# Altium footprint library DC_Stepper.PcbLib: 15 footprints
Each footprint in its own frame and in the unit in brackets; x right, y up, seen from the top. Pads: shape width x height; smd on the part's side, far side on the other; paste and mask are expansions set on the pad; w line width, h text height; cw(c..) or ccw(c..) is an arc to the next point about the centre after c.
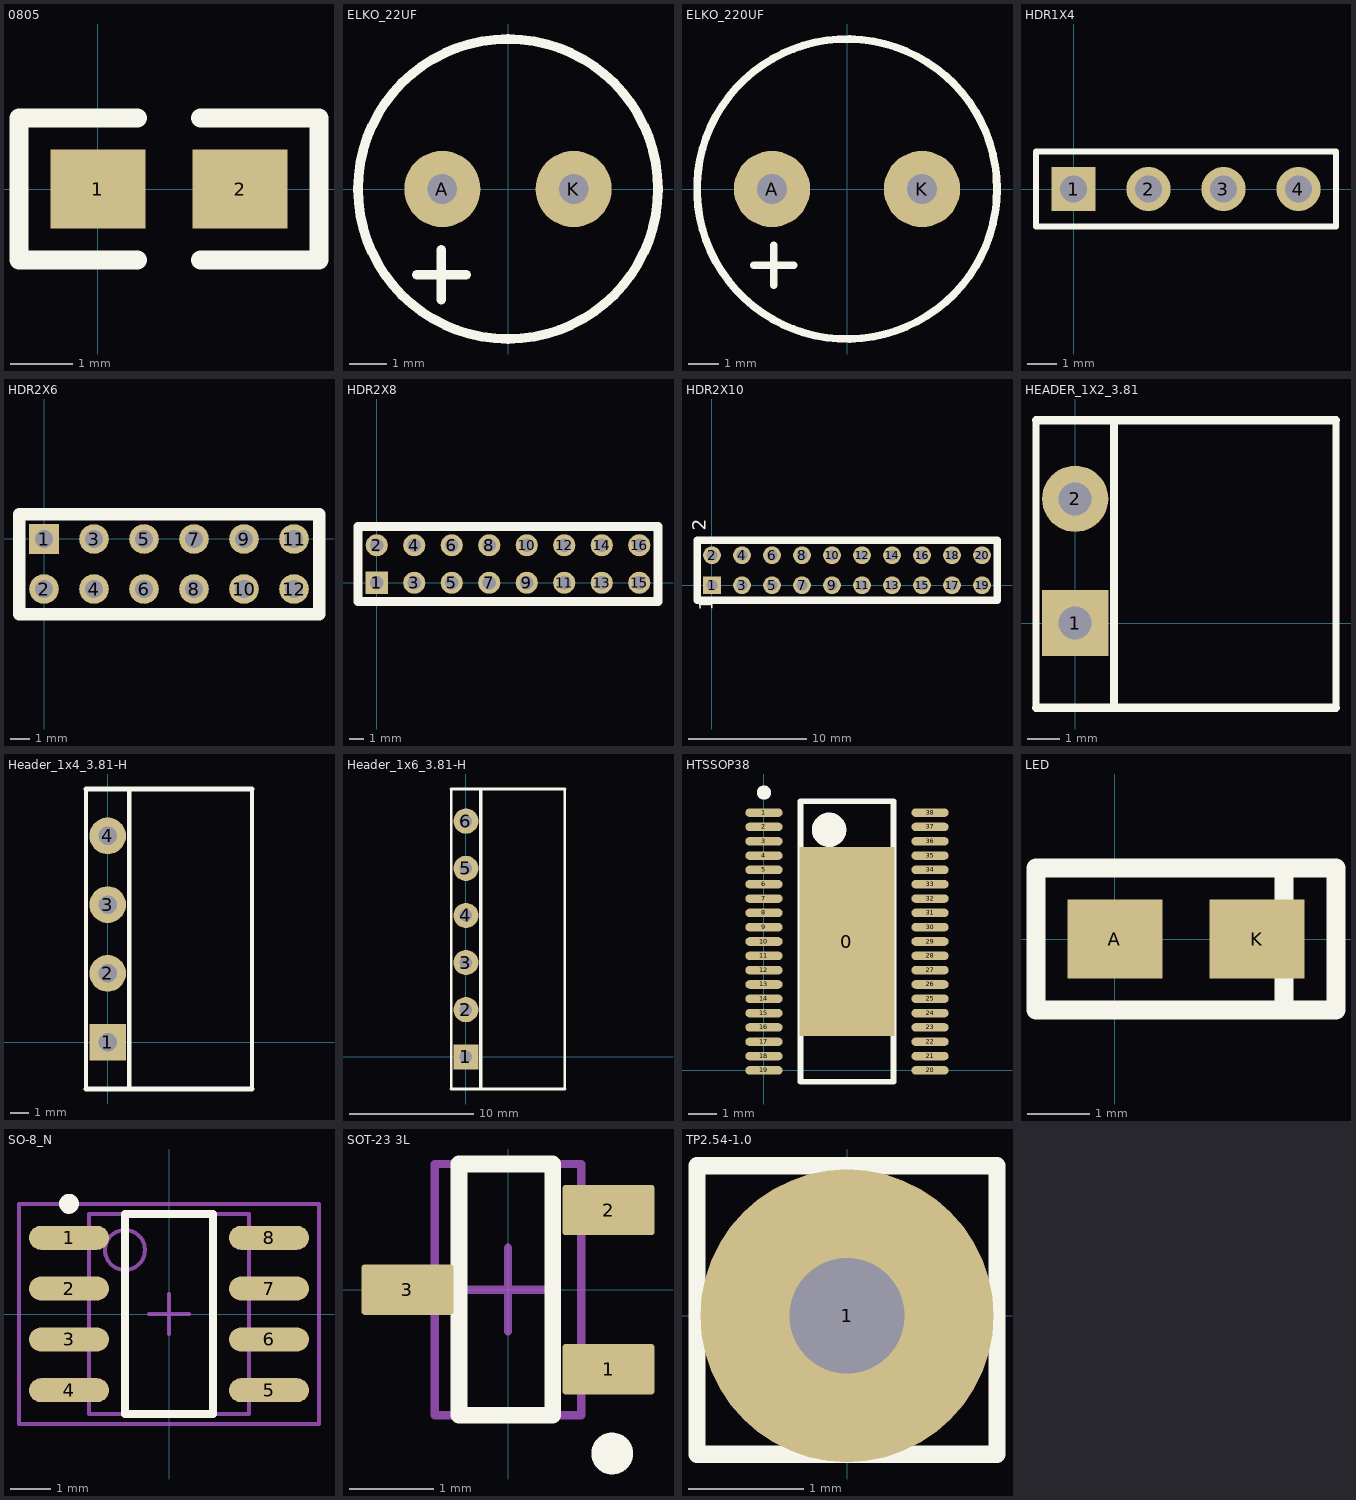
[diagram p0: the footprints below, top view; thin cyan lines are the x and y axes]

## 0805 [mil]
height 47.24
pads (2):
  rect 60x50 smd: 1(0,0) 2(90,0)
Top Overlay:
  lines w12: 25,-45 -50,-45 -50,45 25,45 ; 65,-45 140,-45 140,45 65,45

## ELKO_22UF [mil] "NKR220M1CE11VU"
pads (2):
  round 80 hole 31: A(-68.9,0) K(68.9,0)
Top Overlay:
  circle w10: c0,0 r157.48
  lines w10: -96,-90 -44,-90 ; -70,-116 -70,-64

## ELKO_220UF [mm]
pads (2):
  round 2.54 hole 1.016: A(-2.5,0) K(2.5,0)
Top Overlay:
  circle w0.254: c0,0 r5
  lines w0.254: -3.101,-2.54 -1.781,-2.54 ; -2.441,-3.2 -2.441,-1.88

## HDR1X4 [mm] "Connector; Header; 4 Position"
height 1.2
pads (4):
  rect 1.5x1.5 hole 0.9: 1(0,0)
  round 1.5 hole 0.9: 2(2.54,0) 3(5.08,0) 4(7.62,0)
Top Overlay:
  lines w0.2: -1.27,-1.27 8.89,-1.27 8.89,1.27 -1.27,1.27 -1.27,-1.27

## HDR2X6 [mm]
pads (12):
  rect 1.5x1.5 hole 0.9: 1(0,0)
  round 1.5 hole 0.9: 2(0,-2.54) 3(2.54,0) 4(2.54,-2.54) 5(5.08,0) 6(5.08,-2.54) 7(7.62,0) 8(7.62,-2.54) 9(10.16,0) 10(10.16,-2.54) 11(12.7,0) 12(12.7,-2.54)
Top Overlay:
  lines w0.635: -1.27,-3.81 -1.27,1.27 13.97,1.27 13.97,-3.81 -1.27,-3.81

## HDR2X8 [mm] "Connector; Header; 8x2 Position"
pads (16):
  rect 1.5x1.5 hole 0.9: 1(0,0)
  round 1.5 hole 0.9: 2(0,2.54) 3(2.54,0) 4(2.54,2.54) 5(5.08,0) 6(5.08,2.54) 7(7.62,0) 8(7.62,2.54) 9(10.16,0) 10(10.16,2.54) 11(12.7,0) 12(12.7,2.54) 13(15.24,0) 14(15.24,2.54) 15(17.78,0) 16(17.78,2.54)
Top Overlay:
  lines w0.635: -1.27,-1.27 -1.27,3.81 19.05,3.81 19.05,-1.27 -1.27,-1.27

## HDR2X10 [mm] "Connector; Header; 10x2 Position"
pads (20):
  rect 1.5x1.5 hole 0.9: 1(0,0)
  round 1.5 hole 0.9: 2(0,2.54) 3(2.54,0) 4(2.54,2.54) 5(5.08,0) 6(5.08,2.54) 7(7.62,0) 8(7.62,2.54) 9(10.16,0) 10(10.16,2.54) 11(12.7,0) 12(12.7,2.54) 13(15.24,0) 14(15.24,2.54) 15(17.78,0) 16(17.78,2.54) 17(20.32,0) 18(20.32,2.54) 19(22.86,0) 20(22.86,2.54)
Top Overlay:
  lines w0.635: -1.27,-1.27 0.635,-1.27 24.13,-1.27 24.13,3.81 0.635,3.81 -1.27,3.81 -1.27,-1.27
  text "1" at 0.05,-2.15 h1.14
  text "2" at -0.525,4.6 h1.14

## HEADER_1X2_3.81 [mil]
height 47.24
pads (2):
  rect 80x80 hole 40: 1(0,0)
  round 80 hole 40: 2(0,150)
Top Overlay:
  lines w7.87: -47.24,-102.36 -47.24,245 ; 314.96,-102.36 314.96,245
  lines w10: -47.24,-102.36 314.96,-102.36 ; -47.24,245 314.96,245 ; 47,-101.36 47,245

## Header_1x4_3.81-H [mil]
height 47.24
pads (4):
  rect 80x80 hole 40: 1(0,0)
  round 80 hole 40: 2(0,150) 3(0,300) 4(0,450)
Top Overlay:
  lines w7.87: -47.24,-102.36 -47.24,552.36 ; 314.96,-102.36 314.96,552.36
  lines w10: -47.24,-102.36 314.96,-102.36 ; -47.24,552.36 314.96,552.36 ; 47,-101.36 47,552.36

## Header_1x6_3.81-H [mil]
height 47.24
pads (6):
  rect 80x80 hole 40: 1(0,0)
  round 80 hole 40: 2(0,150) 3(0,300) 4(0,450) 5(0,600) 6(0,750)
Top Overlay:
  lines w7.87: -47.24,-102.36 -47.24,852.36 ; 314.96,-102.36 314.96,852
  lines w10: -47.24,-102.36 314.96,-102.36 ; -47.24,852 314.96,852 ; 47,-101.36 47,852

## HTSSOP38 [mm] "L6480"
height 0.9
pads (39):
  rect 3.3x6.6 smd: 0(2.9,4.5)
  oval 1.3x0.3 smd: 1(0,9) 2(0,8.5) 3(0,8) 4(0,7.5) 5(0,7) 6(0,6.5) 7(0,6) 8(0,5.5) 9(0,5) 10(0,4.5) 11(0,4) 12(0,3.5) 13(0,3) 14(0,2.5) 15(0,2) 16(0,1.5) 17(0,1) 18(0,0.5) 19(0,0) 20(5.8,0) 21(5.8,0.5) 22(5.8,1) 23(5.8,1.5) 24(5.8,2) 25(5.8,2.5) 26(5.8,3) 27(5.8,3.5) 28(5.8,4) 29(5.8,4.5) 30(5.8,5) 31(5.8,5.5) 32(5.8,6) 33(5.8,6.5) 34(5.8,7) 35(5.8,7.5) 36(5.8,8) 37(5.8,8.5) 38(5.8,9)
Top Overlay:
  circle w0.25: c0,9.7 r0.125
  circle w0.6: c2.275,8.4 r0.3
  lines w0.2: 1.275,-0.4 1.275,9.4 4.52,9.4 4.52,-0.4 1.275,-0.4

## LED [mil]
height 47.24
pads (2):
  rect 60x50 smd: A(0,0) K(90,0)
Top Overlay:
  lines w12: 107,-44 107,45 ; -50,-45 65,-45 140,-45 140,45 65,45 -50,45 -50,-45

## SO-8_N [mm] "SOIC, 8-Leads, Body 4.9x3.9mm, Pitch 1.27mm, IPC Medium Density"
height 1.75
pads (8):
  oval 2x0.6 smd: 1(-2.5,1.905) 2(-2.5,0.635) 3(-2.5,-0.635) 4(-2.5,-1.905) 5(2.5,-1.905) 6(2.5,-0.635) 7(2.5,0.635) 8(2.5,1.905)
Top Overlay:
  circle w0.25: c-2.5,2.755 r0.125
  lines w0.2: -1.1,-2.5 1.1,-2.5 1.1,2.5 -1.1,2.5 -1.1,-2.5
Mechanical 13:
  circle w0.1: c-1.1,1.6 r0.5
  lines w0.1: -2,-2.5 2,-2.5 2,2.5 -2,2.5 -2,-2.5
Mechanical 15:
  lines w0.1: -0.5,0 0.5,0 ; 0,-0.5 0,0.5 ; -3.75,-2.75 3.75,-2.75 3.75,2.75 -3.75,2.75 -3.75,-2.75
3D body: height 1.75, standoff 0, extent -2,-2.5 2,2.5

## SOT-23 3L [mm]
pads (3):
  rrect12% 1.1x0.6 smd: 1(1.2,-0.95) 2(1.2,0.95) 3(-1.2,0)
Top Overlay:
  circle w0.25: c1.245,-1.956 r0.125
  lines w0.2: -0.584,-1.5 0.533,-1.5 0.533,1.5 -0.584,1.5 -0.584,-1.5
Mechanical 13:
  lines w0.1: -0.875,-1.5 -0.875,1.5 0.875,1.5 0.875,-1.5 -0.875,-1.5
Mechanical 15:
  lines w0.1: -0.5,0 0.5,0 ; 0,-0.5 0,0.5
3D body: height 1.1, standoff 0.05, extent -0.875,-1.5 0.875,1.5

## TP2.54-1.0 [mm]
height 1.2
pads (1):
  round 2.54 hole 1: 1(0,0)
Top Overlay:
  lines w0.15: -1.3,-1.2 1.3,-1.2 1.3,1.3 -1.3,1.3 -1.3,-1.2